# Altium footprint library UC-4281.PcbLib: 20 footprints (part 2 of 2)
Each footprint in its own frame and in the unit in brackets; x right, y up, seen from the top. Pads: shape width x height; smd on the part's side, far side on the other; paste and mask are expansions set on the pad; w line width, h text height; cw(c..) or ccw(c..) is an arc to the next point about the centre after c.
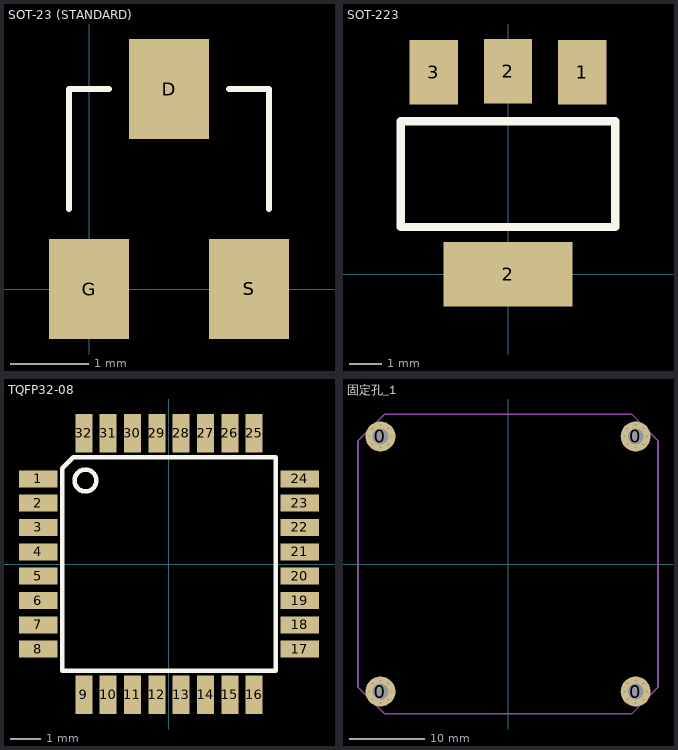
[diagram p1: the footprints below, top view; thin cyan lines are the x and y axes]

## SOT-23 (STANDARD) [mil]
height 77.95
pads (3):
  rect 40x50 smd: D(40,100) G(0,0) S(80,0)
Top Overlay:
  lines w3: -10,40 -10,100 10,100 ; 70,100 90,100 90,40
3D body: height 41.65, standoff -1.65, extent -19,-2.21 99.11,96.21

## SOT-223 [mm] "TSOP, 44-Leads, Body 18.4x10.2mm (max), Pitch 0.80mm, IPC Mediu"
height 12.75
pads (4):
  rect 1.5x2 smd: 1(2.3,6.275) 2(0,6.3) 3(-2.3,6.275)
  rect 4x2 smd: 2(0,0)
Top Overlay:
  lines w0.254: -3.325,1.475 3.325,1.475 3.325,4.75 -3.325,4.75 -3.325,1.475
3D body: height 1.72, standoff 0.02, extent -3.199,-0.356 3.301,6.535

## TQFP32-08 [mil]
height 39.37
pads (32):
  rect 50x22 smd: 1(-169,110.24) 2(-169,78.74) 3(-169,47.25) 4(-169,15.75) 5(-169,-15.74) 6(-169,-47.24) 7(-169,-78.74) 8(-169,-110.24) 17(169.01,-110.23) 18(169,-78.73) 19(169,-47.24) 20(169,-15.74) 21(169,15.75) 22(169,47.25) 23(169,78.74) 24(169,110.24)
  rect 22x50 smd: 9(-110.24,-169) 10(-78.74,-169) 11(-47.24,-168.99) 12(-15.74,-169) 13(15.75,-169) 14(47.25,-169) 15(78.74,-169) 16(110.24,-169) 25(110.24,169) 26(78.74,169) 27(47.25,169) 28(15.75,169) 29(-15.75,169) 30(-47.24,169) 31(-78.73,169) 32(-110.23,169)
Top Overlay:
  circle w6: c-108,108 r14.14
  lines w6: -137.99,-137.99 137.99,-137.99 137.99,137.99 -124.01,138 -137.99,124.02 -137.99,-137.99

## 固定孔_1 [mil]
pads (36):
  round 15 hole 10: 0(-729.05,-670) 0(-729.05,670) 0(-711.73,-711.73) 0(-711.73,-628.27) 0(-711.73,628.27) 0(-711.73,711.73) 0(-670,-729.05) 0(-670,-610.94) 0(-670,610.95) 0(-670,729.06) 0(-628.27,-711.73) 0(-628.27,-628.27) 0(-628.27,628.27) 0(-628.27,711.73) 0(-610.94,-670) 0(-610.94,670) 0(610.95,-670) 0(610.95,670) 0(628.27,-711.73) 0(628.27,-628.27) 0(628.27,628.27) 0(628.27,711.73) 0(670,-729.05) 0(670,-610.94) 0(670,610.95) 0(670,729.06) 0(711.73,-711.73) 0(711.73,-628.27) 0(711.73,628.27) 0(711.73,711.73) 0(729.06,-670) 0(729.06,670)
  round 157.48 hole 82.68: 0(-670,-670) 0(-670,670) 0(670,-670) 0(670,670)
Mechanical 2:
  lines w8: -787.4,647.6 -647.6,787.4 647.6,787.4 787.4,647.6 787.4,-647.6 647.6,-787.4 -647.6,-787.4 -788,-647 -788,647 -781,654